# Altium schematic symbol library DA2032-ALD.SchLib: 1 symbol
Pins are listed as number, name and electrical type; pins without a type are passive.

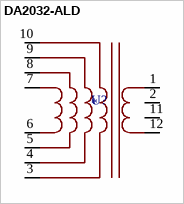
[diagram p0: symbol DA2032-ALD]

## DA2032-ALD
designator U?  (value not drawn)
Audio Transformers. SMD-12 Audio Transformers ROHS; Manufacturer: Coilcraft; Component Type: Integrated Circuits; Design Item ID: DA2032-ALD; JLCPCB Part #: C7938441; Manufacturer Part Number: DA2032-ALD; Value: *
footprint DA2032-ALD (XFMR-SMD_12P-L17.2-W15.0-P2.50-LS22.0)
pins: 1, 2, 3, 4, 5, 6, 7, 8, 9, 10, 11, 12